# Altium schematic symbol library Digi.SchLib: 3 symbols
Pins are listed as number, name and electrical type; pins without a type are passive.

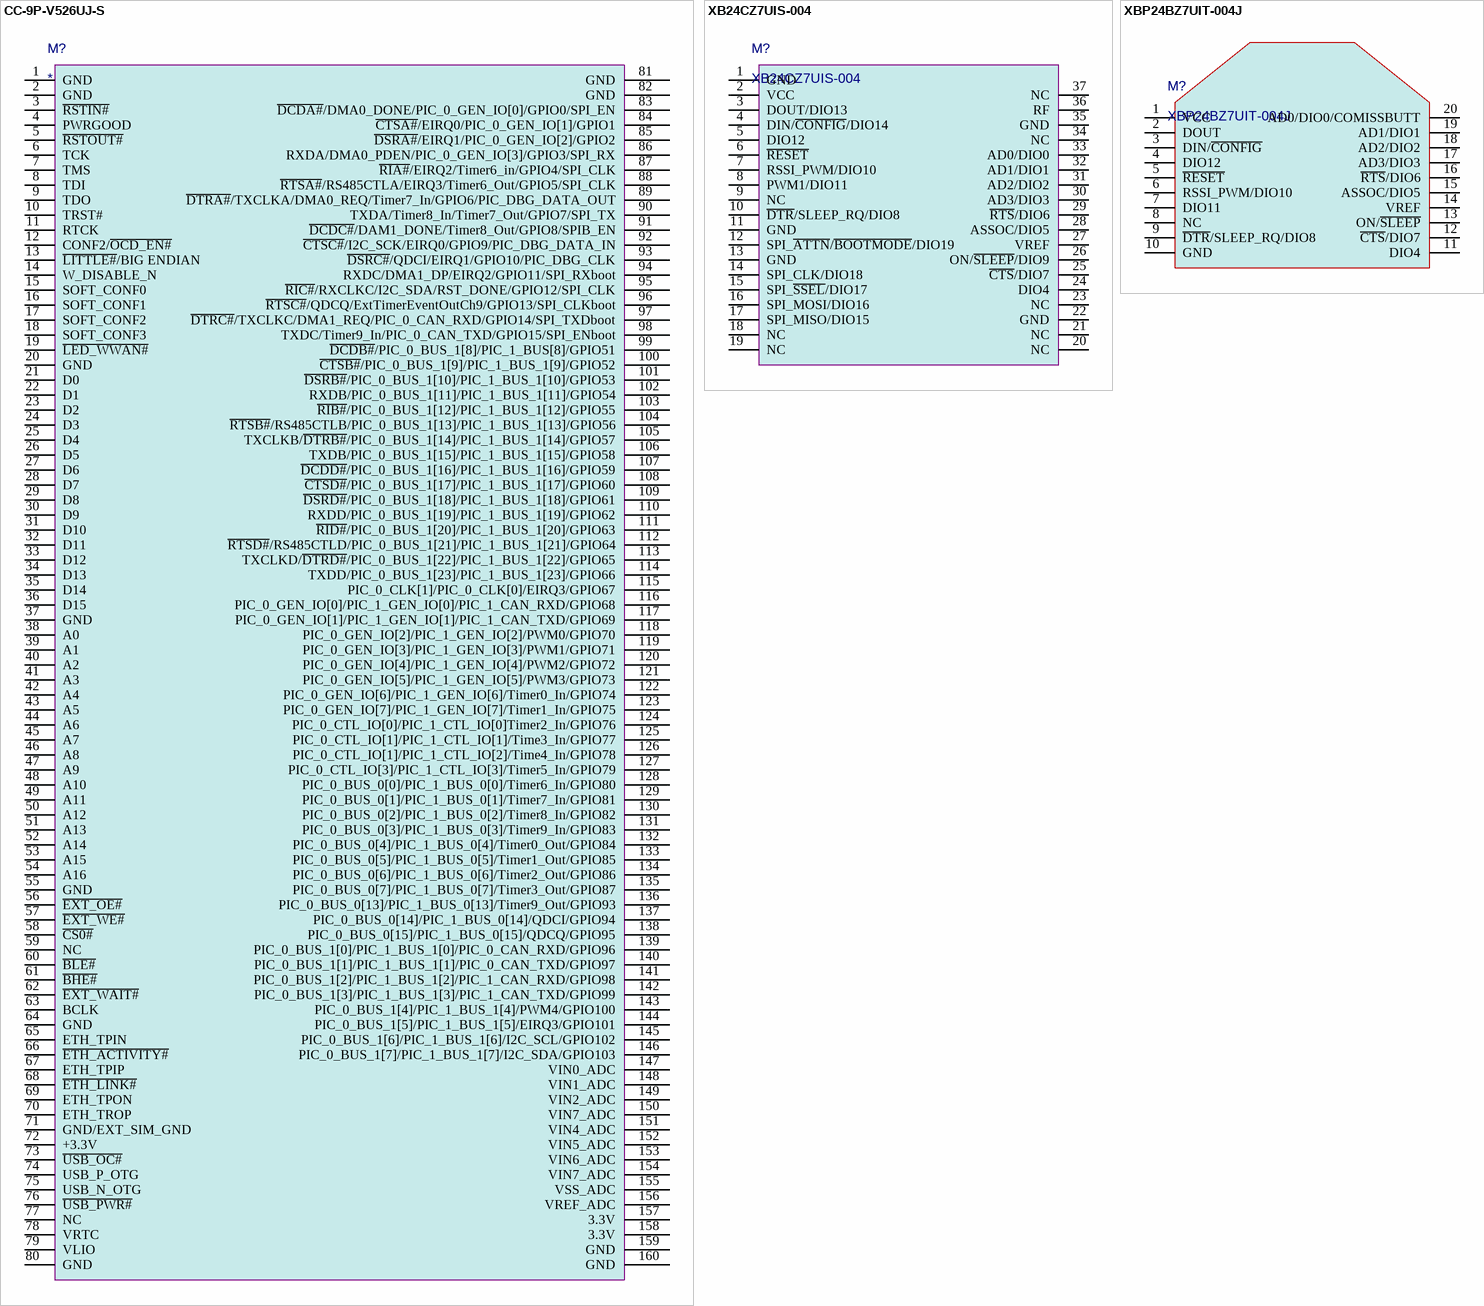
[diagram p0: symbols CC-9P-V526UJ-S to XBP24BZ7UIT-004J]

## CC-9P-V526UJ-S
designator M?
Value: CC-9P-V526UJ-S
pins: 1 GND, 2 GND, 3 ~{RSTIN#}, 4 PWRGOOD, 5 ~{RSTOUT#}, 6 TCK, 7 TMS, 8 TDI, 9 TDO, 10 TRST#, 11 RTCK, 12 CONF2/~{OCD_EN#}, 13 ~{LITTLE#}/BIG ENDIAN, 14 W_DISABLE_N, 15 SOFT_CONF0, 16 SOFT_CONF1, 17 SOFT_CONF2, 18 SOFT_CONF3, 19 ~{LED_WWAN#}, 20 GND, 21 D0, 22 D1, 23 D2, 24 D3, 25 D4, 26 D5, 27 D6, 28 D7, 29 D8, 30 D9, 31 D10, 32 D11, 33 D12, 34 D13, 35 D14, 36 D15, 37 GND, 38 A0, 39 A1, 40 A2, 41 A3, 42 A4, 43 A5, 44 A6, 45 A7, 46 A8, 47 A9, 48 A10, 49 A11, 50 A12, 51 A13, 52 A14, 53 A15, 54 A16, 55 GND, 56 ~{EXT_OE#}, 57 ~{EXT_WE#}, 58 ~{CS0#}, 59 NC, 60 ~{BLE#}, 61 ~{BHE#}, 62 ~{EXT_WAIT#}, 63 BCLK, 64 GND, 65 ETH_TPIN, 66 ~{ETH_ACTIVITY#}, 67 ETH_TPIP, 68 ~{ETH_LINK#}, 69 ETH_TPON, 70 ETH_TROP, 71 GND/EXT_SIM_GND, 72 +3.3V, 73 ~{USB_OC#}, 74 USB_P_OTG, 75 USB_N_OTG, 76 ~{USB_PWR#}, 77 NC, 78 VRTC, 79 VLIO, 80 GND, 81 GND, 82 GND, 83 ~{DCDA#}/DMA0_DONE/PIC_0_GEN_IO[0]/GPIO0/SPI_EN, 84 ~{CTSA#}/EIRQ0/PIC_0_GEN_IO[1]/GPIO1, 85 ~{DSRA#}/EIRQ1/PIC_0_GEN_IO[2]/GPIO2, 86 RXDA/DMA0_PDEN/PIC_0_GEN_IO[3]/GPIO3/SPI_RX, 87 ~{RIA#}/EIRQ2/Timer6_in/GPIO4/SPI_CLK, 88 ~{RTSA#}/RS485CTLA/EIRQ3/Timer6_Out/GPIO5/SPI_CLK, 89 ~{DTRA#}/TXCLKA/DMA0_REQ/Timer7_In/GPIO6/PIC_DBG_DATA_OUT, 90 TXDA/Timer8_In/Timer7_Out/GPIO7/SPI_TX, 91 ~{DCDC#}/DAM1_DONE/Timer8_Out/GPIO8/SPIB_EN, 92 ~{CTSC#}/I2C_SCK/EIRQ0/GPIO9/PIC_DBG_DATA_IN, 93 ~{DSRC#}/QDCI/EIRQ1/GPIO10/PIC_DBG_CLK, 94 RXDC/DMA1_DP/EIRQ2/GPIO11/SPI_RXboot, 95 ~{RIC#}/RXCLKC/I2C_SDA/RST_DONE/GPIO12/SPI_CLK, 96 ~{RTSC#}/QDCQ/ExtTimerEventOutCh9/GPIO13/SPI_CLKboot, 97 ~{DTRC#}/TXCLKC/DMA1_REQ/PIC_0_CAN_RXD/GPIO14/SPI_TXDboot, 98 TXDC/Timer9_In/PIC_0_CAN_TXD/GPIO15/SPI_ENboot, 99 ~{DCDB#}/PIC_0_BUS_1[8]/PIC_1_BUS[8]/GPIO51, 100 ~{CTSB#}/PIC_0_BUS_1[9]/PIC_1_BUS_1[9]/GPIO52, 101 ~{DSRB#}/PIC_0_BUS_1[10]/PIC_1_BUS_1[10]/GPIO53, 102 RXDB/PIC_0_BUS_1[11]/PIC_1_BUS_1[11]/GPIO54, 103 ~{RIB#}/PIC_0_BUS_1[12]/PIC_1_BUS_1[12]/GPIO55, 104 ~{RTSB#}/RS485CTLB/PIC_0_BUS_1[13]/PIC_1_BUS_1[13]/GPIO56, 105 TXCLKB/~{DTRB#}/PIC_0_BUS_1[14]/PIC_1_BUS_1[14]/GPIO57, 106 TXDB/PIC_0_BUS_1[15]/PIC_1_BUS_1[15]/GPIO58, 107 ~{DCDD#}/PIC_0_BUS_1[16]/PIC_1_BUS_1[16]/GPIO59, 108 ~{CTSD#}/PIC_0_BUS_1[17]/PIC_1_BUS_1[17]/GPIO60, 109 ~{DSRD#}/PIC_0_BUS_1[18]/PIC_1_BUS_1[18]/GPIO61, 110 RXDD/PIC_0_BUS_1[19]/PIC_1_BUS_1[19]/GPIO62, 111 ~{RID#}/PIC_0_BUS_1[20]/PIC_1_BUS_1[20]/GPIO63, 112 ~{RTSD#}/RS485CTLD/PIC_0_BUS_1[21]/PIC_1_BUS_1[21]/GPIO64, 113 TXCLKD/~{DTRD#}/PIC_0_BUS_1[22]/PIC_1_BUS_1[22]/GPIO65, 114 TXDD/PIC_0_BUS_1[23]/PIC_1_BUS_1[23]/GPIO66, 115 PIC_0_CLK[1]/PIC_0_CLK[0]/EIRQ3/GPIO67, 116 PIC_0_GEN_IO[0]/PIC_1_GEN_IO[0]/PIC_1_CAN_RXD/GPIO68, 117 PIC_0_GEN_IO[1]/PIC_1_GEN_IO[1]/PIC_1_CAN_TXD/GPIO69, 118 PIC_0_GEN_IO[2]/PIC_1_GEN_IO[2]/PWM0/GPIO70, 119 PIC_0_GEN_IO[3]/PIC_1_GEN_IO[3]/PWM1/GPIO71, 120 PIC_0_GEN_IO[4]/PIC_1_GEN_IO[4]/PWM2/GPIO72, 121 PIC_0_GEN_IO[5]/PIC_1_GEN_IO[5]/PWM3/GPIO73, 122 PIC_0_GEN_IO[6]/PIC_1_GEN_IO[6]/Timer0_In/GPIO74, 123 PIC_0_GEN_IO[7]/PIC_1_GEN_IO[7]/Timer1_In/GPIO75, 124 PIC_0_CTL_IO[0]/PIC_1_CTL_IO[0]Timer2_In/GPIO76, 125 PIC_0_CTL_IO[1]/PIC_1_CTL_IO[1]/Time3_In/GPIO77, 126 PIC_0_CTL_IO[1]/PIC_1_CTL_IO[2]/Time4_In/GPIO78, 127 PIC_0_CTL_IO[3]/PIC_1_CTL_IO[3]/Timer5_In/GPIO79, 128 PIC_0_BUS_0[0]/PIC_1_BUS_0[0]/Timer6_In/GPIO80, 129 PIC_0_BUS_0[1]/PIC_1_BUS_0[1]/Timer7_In/GPIO81, 130 PIC_0_BUS_0[2]/PIC_1_BUS_0[2]/Timer8_In/GPIO82, 131 PIC_0_BUS_0[3]/PIC_1_BUS_0[3]/Timer9_In/GPIO83, 132 PIC_0_BUS_0[4]/PIC_1_BUS_0[4]/Timer0_Out/GPIO84, 133 PIC_0_BUS_0[5]/PIC_1_BUS_0[5]/Timer1_Out/GPIO85, 134 PIC_0_BUS_0[6]/PIC_1_BUS_0[6]/Timer2_Out/GPIO86, 135 PIC_0_BUS_0[7]/PIC_1_BUS_0[7]/Timer3_Out/GPIO87, 136 PIC_0_BUS_0[13]/PIC_1_BUS_0[13]/Timer9_Out/GPIO93, 137 PIC_0_BUS_0[14]/PIC_1_BUS_0[14]/QDCI/GPIO94, 138 PIC_0_BUS_0[15]/PIC_1_BUS_0[15]/QDCQ/GPIO95, 139 PIC_0_BUS_1[0]/PIC_1_BUS_1[0]/PIC_0_CAN_RXD/GPIO96, 140 PIC_0_BUS_1[1]/PIC_1_BUS_1[1]/PIC_0_CAN_TXD/GPIO97, 141 PIC_0_BUS_1[2]/PIC_1_BUS_1[2]/PIC_1_CAN_RXD/GPIO98, 142 PIC_0_BUS_1[3]/PIC_1_BUS_1[3]/PIC_1_CAN_TXD/GPIO99, 143 PIC_0_BUS_1[4]/PIC_1_BUS_1[4]/PWM4/GPIO100, 144 PIC_0_BUS_1[5]/PIC_1_BUS_1[5]/EIRQ3/GPIO101, 145 PIC_0_BUS_1[6]/PIC_1_BUS_1[6]/I2C_SCL/GPIO102, 146 PIC_0_BUS_1[7]/PIC_1_BUS_1[7]/I2C_SDA/GPIO103, 147 VIN0_ADC, 148 VIN1_ADC, 149 VIN2_ADC, 150 VIN7_ADC, 151 VIN4_ADC, 152 VIN5_ADC, 153 VIN6_ADC, 154 VIN7_ADC, 155 VSS_ADC, 156 VREF_ADC, 157 3.3V, 158 3.3V, 159 GND, 160 GND

## XB24CZ7UIS-004
designator M?
Value: XB24CZ7UIS-004
pins: 1 GND, 2 VCC, 3 DOUT/DIO13, 4 DIN/~{CONFIG}/DIO14, 5 DIO12, 6 ~{RESET}, 7 RSSI_PWM/DIO10, 8 PWM1/DIO11, 9 NC, 10 ~{DTR}/SLEEP_RQ/DIO8, 11 GND, 12 SPI_~{ATTN}/~{BOOTMODE}/DIO19, 13 GND, 14 SPI_CLK/DIO18, 15 SPI_~{SSEL}/DIO17, 16 SPI_MOSI/DIO16, 17 SPI_MISO/DIO15, 18 NC, 19 NC, 20 NC, 21 NC, 22 GND, 23 NC, 24 DIO4, 25 ~{CTS}/DIO7, 26 ON/~{SLEEP}/DIO9, 27 VREF, 28 ASSOC/DIO5, 29 ~{RTS}/DIO6, 30 AD3/DIO3, 31 AD2/DIO2, 32 AD1/DIO1, 33 AD0/DIO0, 34 NC, 35 GND, 36 RF, 37 NC

## XBP24BZ7UIT-004J
designator M?
Value: XBP24BZ7UIT-004J
pins: 1 VCC, 2 DOUT, 3 DIN/~{CONFIG}, 4 DIO12, 5 ~{RESET}, 6 RSSI_PWM/DIO10, 7 DIO11, 8 NC, 9 ~{DTR}/SLEEP_RQ/DIO8, 10 GND, 11 DIO4, 12 ~{CTS}/DIO7, 13 ON/~{SLEEP}, 14 VREF, 15 ASSOC/DIO5, 16 ~{RTS}/DIO6, 17 AD3/DIO3, 18 AD2/DIO2, 19 AD1/DIO1, 20 AD0/DIO0/COMISSBUTT